# Altium footprint library LC-SMB(DO-214AA).PcbLib: 5 footprints
Each footprint in its own frame and in the unit in brackets; x right, y up, seen from the top. Pads: shape width x height; smd on the part's side, far side on the other; paste and mask are expansions set on the pad; w line width, h text height; cw(c..) or ccw(c..) is an arc to the next point about the centre after c.
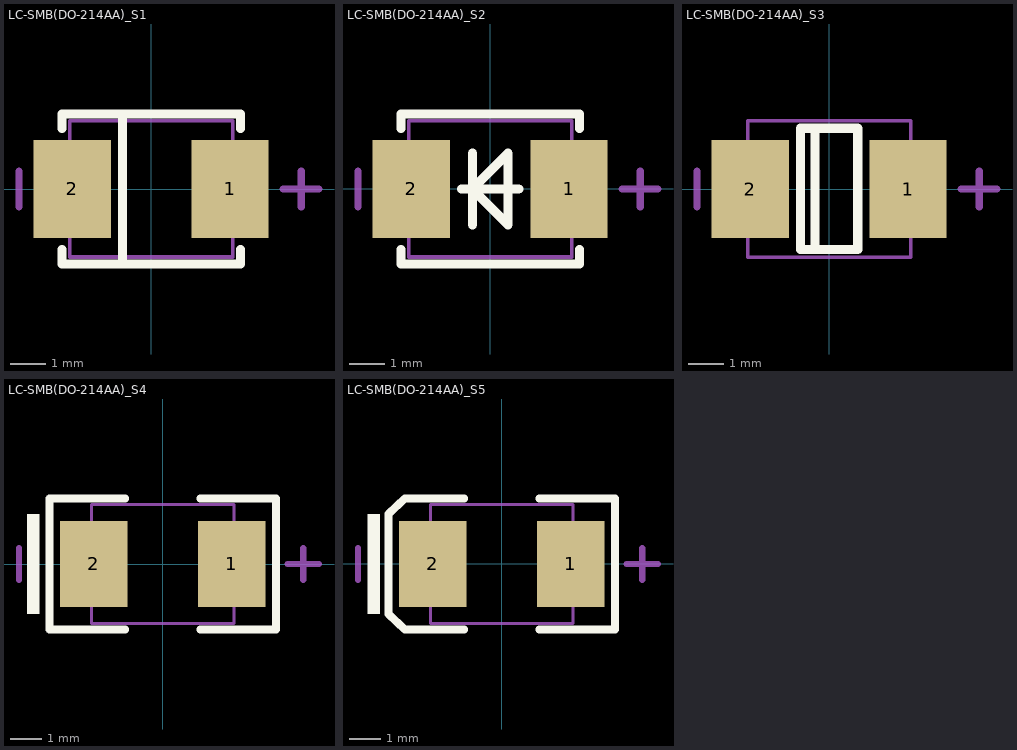
[diagram p0: the footprints below, top view; thin cyan lines are the x and y axes]

## LC-SMB(DO-214AA)_S1 [mil]
pads (2):
  rect 85x107.99 smd: 1(87.01,0) 2(-87.01,0)
Top Overlay:
  lines w10: -98.43,-66.93 -98.43,-82.68 98.43,-82.68 98.43,-66.93 ; -98.43,66.93 -98.43,82.68 98.43,82.68 98.43,66.93 ; -31.5,-82.68 -31.5,82.68
Mechanical 13:
  lines w3.94: -89.96,-75 89.96,-75 89.96,75 -89.96,75 -89.96,-75
Mechanical 15:
  lines w8: -145.67,-19.68 -145.67,19.68 ; 145.67,0 185.04,0 ; 165.35,-19.68 165.35,19.68

## LC-SMB(DO-214AA)_S2 [mil]
pads (2):
  rect 85x107.99 smd: 1(87.01,0) 2(-87.01,0)
Top Overlay:
  lines w10: -98.43,-66.93 -98.43,-82.68 98.43,-82.68 98.43,-66.93 ; -98.43,66.93 -98.43,82.68 98.43,82.68 98.43,66.93 ; -31.5,0 31.5,0 ; -19.68,-39.37 -19.68,39.37 ; -19.68,0 19.68,39.37 19.68,-39.37 -19.68,0
Mechanical 13:
  lines w3.94: -89.96,-75 89.96,-75 89.96,75 -89.96,75 -89.96,-75
Mechanical 15:
  lines w8: -145.67,-19.69 -145.67,19.68 ; 145.67,0 185.04,0 ; 165.35,-19.69 165.35,19.68

## LC-SMB(DO-214AA)_S3 [mil]
pads (2):
  rect 85x107.99 smd: 1(87.01,0) 2(-87.01,0)
Top Overlay:
  lines w10: -15.75,-66.93 -15.75,66.93 ; -31.5,-66.93 -31.5,66.93 31.5,66.93 31.5,-66.93 -31.5,-66.93
Mechanical 13:
  lines w3.94: -89.96,-75 -89.96,75 89.96,75 89.96,-75 -89.96,-75
Mechanical 15:
  lines w8: -145.67,-19.68 -145.67,19.68 ; 145.67,0 185.04,0 ; 165.35,-19.68 165.35,19.68

## LC-SMB(DO-214AA)_S4 [mil]
pads (2):
  rect 85x107.99 smd: 1(87.01,0) 2(-87.01,0)
Top Overlay:
  rectangle: -171.26,-62.99 -155.51,62.99
  lines w10: -47.24,-82.68 -142.72,-82.68 -142.72,82.68 -47.24,82.68 ; 47.24,-82.68 142.72,-82.68 142.72,82.68 47.24,82.68
Mechanical 13:
  lines w3.94: -89.96,-75 89.96,-75 89.96,75 -89.96,75 -89.96,-75
Mechanical 15:
  lines w8: -181.1,-19.68 -181.1,19.68 ; 157.48,0 196.85,0 ; 177.17,-19.68 177.17,19.68

## LC-SMB(DO-214AA)_S5 [mil]
pads (2):
  rect 85x107.99 smd: 1(87.01,0) 2(-87.01,0)
Top Overlay:
  rectangle: -169.13,-62.99 -153.39,62.99
  lines w10: -47.24,-82.68 -122.05,-82.68 -142.72,-62.99 -142.72,62.99 -122.05,82.68 -47.24,82.68 ; 47.24,-82.68 142.72,-82.68 142.72,82.68 47.24,82.68
Mechanical 13:
  lines w3.94: -89.96,-75 -89.96,75 89.96,75 89.96,-75 -89.96,-75
Mechanical 15:
  lines w8: -181.1,-19.69 -181.1,19.68 ; 157.48,0 196.85,0 ; 177.17,-19.69 177.17,19.68